# Altium footprint library PcbLib1.PcbLib: 19 footprints (part 1 of 2)
Each footprint in its own frame and in the unit in brackets; x right, y up, seen from the top. Pads: shape width x height; smd on the part's side, far side on the other; paste and mask are expansions set on the pad; w line width, h text height; cw(c..) or ccw(c..) is an arc to the next point about the centre after c.
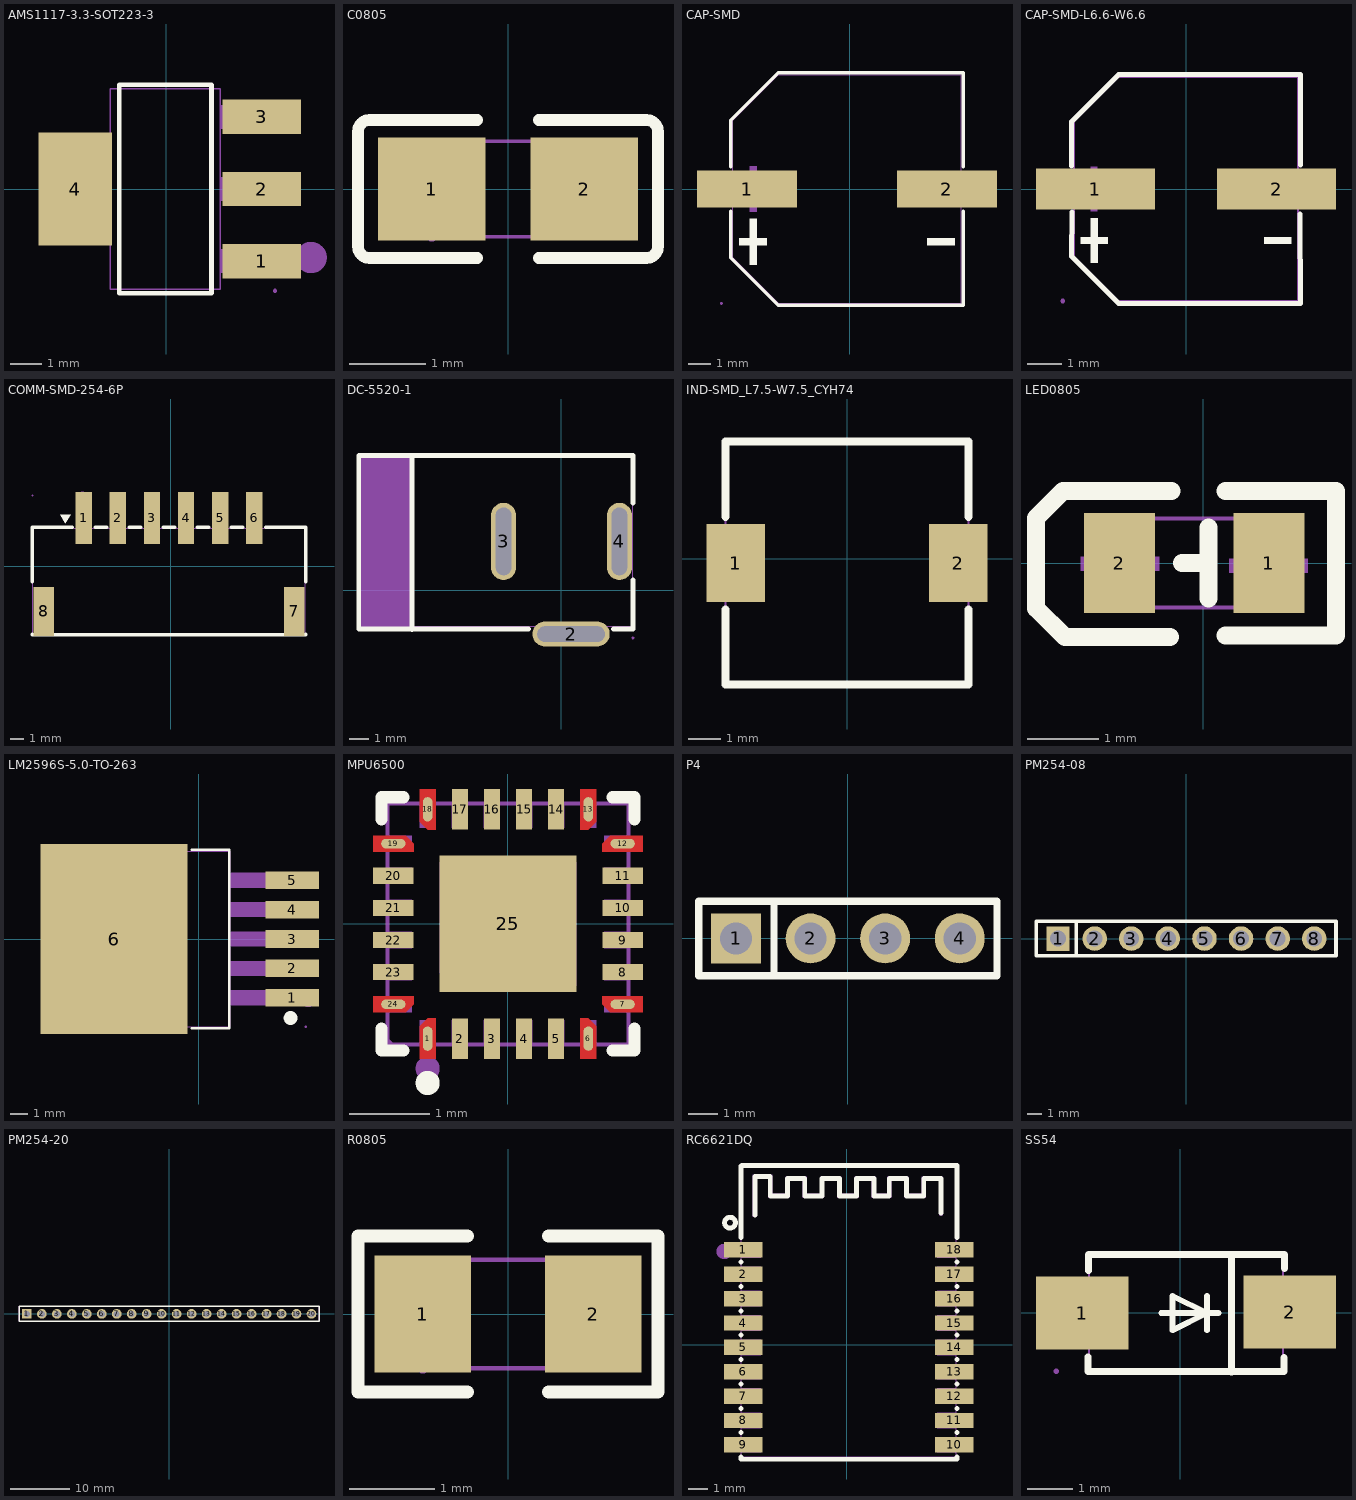
[diagram p0: the footprints below, top view; thin cyan lines are the x and y axes]

## AMS1117-3.3-SOT223-3 [mm]
pads (4):
  rect 2.5x1.1 smd: 1(3.046,-2.3) 2(3.046,0) 3(3.046,2.3)
  rect 2.34x3.6 smd: 4(-2.894,0)
Top Overlay:
  lines w0.152: -1.495,-3.326 -1.495,3.326 1.447,3.326 1.447,-3.326 -1.495,-3.326
Mechanical 6:
  circle w0.5: c4.628,-2.188 r0.25
Mechanical 15:
  region: 3.536,-3.25 3.536,-3.225 3.501,-3.19 3.451,-3.19 3.416,-3.225 3.416,-3.25 3.416,-3.275 3.451,-3.31 3.501,-3.31 3.536,-3.275 3.536,-3.25
  region: -3.524,-1.5 -3.524,1.5 -2.774,1.5 -2.774,-1.5
  region: -2.784,-1.5 -2.784,1.5 -1.764,1.5 -1.764,-1.5
  region: 2.726,-2.675 2.726,-1.925 3.476,-1.925 3.476,-2.675
  region: 1.716,-2.675 1.716,-1.925 2.736,-1.925 2.736,-2.675
  region: 2.726,-0.375 2.726,0.375 3.476,0.375 3.476,-0.375
  region: 1.716,-0.375 1.716,0.375 2.736,0.375 2.736,-0.375
  region: 2.726,1.925 2.726,2.675 3.476,2.675 3.476,1.925
  region: 1.716,1.925 1.716,2.675 2.736,2.675 2.736,1.925
  lines w0.051: -1.778,-3.2 1.722,-3.2 1.722,3.2 -1.778,3.2 -1.778,-3.2
3D body "3D_PCB4_2024-07-02.step": height 1.67, standoff 0, extent -3.346,-3.2 3.654,3.2

## C0805 [mm]
pads (2):
  rect 1.41x1.35 smd paste-100 mask+0.051: 1(-1,0) 2(1,0)
Top Overlay:
  lines w0.152: -0.401,-0.904 -1.811,-0.904 cw(c-1.811,-0.751) -1.964,-0.751 -1.964,0.751 cw(c-1.811,0.751) -1.811,0.904 -0.401,0.904 ; 0.401,-0.904 1.811,-0.904 ccw(c1.811,-0.751) 1.964,-0.751 1.964,0.751 ccw(c1.811,0.751) 1.811,0.904 0.401,0.904
Top Paste:
  region: 0.475,-0.62 0.475,-0.2 0.92,-0.2 0.92,0.25 0.48,0.25 0.475,0.66 0.525,0.71 1.675,0.71 1.725,0.66 1.725,-0.62 1.675,-0.67 0.525,-0.67
  region: -1.675,-0.62 -1.675,0.66 -1.625,0.71 -0.475,0.71 -0.425,0.66 -0.42,0.25 -0.87,0.25 -0.87,-0.2 -0.43,-0.2 -0.425,-0.62 -0.475,-0.67 -1.625,-0.67
Mechanical 15:
  region: -0.94,-0.625 -0.94,-0.6 -0.975,-0.565 -1.025,-0.565 -1.06,-0.6 -1.06,-0.625 -1.06,-0.65 -1.025,-0.685 -0.975,-0.685 -0.94,-0.65 -0.94,-0.625
  region: 1,0.625 1,-0.625 0.5,-0.625 0.5,0.625
  region: -1,-0.625 -1,0.625 -0.5,0.625 -0.5,-0.625
  lines w0.051: -1,-0.625 1,-0.625 1,0.625 -1,0.625 -1,-0.625
3D body "3D_PCB4_2024-07-01.step": height 1.3, standoff 0, extent -0.981,-0.642 1.019,0.658

## CAP-SMD [mm]
pads (2):
  rect 4.5x1.65 smd: 1(-4.627,0) 2(4.373,0)
Top Overlay:
  region: -4.505,-1.339 -4.505,-3.399 -4.195,-3.399 -4.195,-1.339
  region: -4.968,-2.214 -4.968,-2.523 -3.732,-2.523 -3.732,-2.214
  region: 4.714,-2.214 4.714,-2.523 3.478,-2.523 3.478,-2.214
  lines w0.152: -5.353,-1.005 -5.353,-3.09 -3.217,-5.226 5.099,-5.226 5.099,-1.005 ; -5.353,1.005 -5.353,3.09 -3.217,5.226 5.099,5.226 5.099,1.005
Mechanical 6:
  region: -4.505,1.03 -4.505,-1.03 -4.195,-1.03 -4.195,1.03
  region: -4.968,0.155 -4.968,-0.155 -3.732,-0.155 -3.732,0.155
  region: 4.714,0.155 4.714,-0.155 3.478,-0.155 3.478,0.155
Mechanical 15:
  region: -5.717,-5.15 -5.717,-5.125 -5.752,-5.09 -5.802,-5.09 -5.837,-5.125 -5.837,-5.15 -5.837,-5.175 -5.802,-5.21 -5.752,-5.21 -5.717,-5.175 -5.717,-5.15
  region: 2.173,0.475 5.523,0.475 5.523,-0.475 2.173,-0.475
  region: -5.777,0.475 -2.427,0.475 -2.427,-0.475 -5.777,-0.475
  lines w0.051: -5.277,-3.09 -3.217,-5.15 5.023,-5.15 5.023,5.15 -3.217,5.15 -5.277,3.09 -5.277,-3.09
3D body "3D_PC2024-07-01.step": height 10.05, standoff 0, extent -5.323,-5.151 5.577,5.15

## CAP-SMD-L6.6-W6.6 [mm]
pads (2):
  rect 3.5x1.2 smd: 1(-2.67,0) 2(2.67,0)
Top Overlay:
  region: -2.805,-0.858 -2.805,-2.178 -2.607,-2.178 -2.607,-0.858
  region: -3.102,-1.419 -3.102,-1.617 -2.31,-1.617 -2.31,-1.419
  region: 3.102,-1.419 3.102,-1.617 2.31,-1.617 2.31,-1.419
  lines w0.152: -3.376,0.686 -3.376,1.98 -1.98,3.376 3.376,3.376 3.369,0.708 ; -3.362,-0.686 -3.376,-1.981 -1.981,-3.376 3.376,-3.376 3.356,-0.739
Mechanical 6:
  region: -2.81,0.66 -2.81,-0.66 -2.612,-0.66 -2.612,0.66
  region: -3.102,0.099 -3.102,-0.099 -2.31,-0.099 -2.31,0.099
  region: 3.102,0.099 3.102,-0.099 2.31,-0.099 2.31,0.099
Mechanical 15:
  region: -3.634,0.325 -1.034,0.325 -1.034,-0.325 -3.634,-0.325
  region: 1.067,0.325 3.667,0.325 3.667,-0.325 1.067,-0.325
  region: -3.574,-3.3 -3.574,-3.275 -3.609,-3.24 -3.659,-3.24 -3.694,-3.275 -3.694,-3.3 -3.694,-3.325 -3.659,-3.36 -3.609,-3.36 -3.574,-3.325 -3.574,-3.3
  lines w0.051: -3.3,-1.98 -3.3,1.98 -1.98,3.3 3.3,3.3 3.3,-3.3 -1.98,-3.3 -3.3,-1.98
3D body "3_PCB4_2024-07-01.step": height 7.75, standoff 0, extent -3.773,-3.301 4.027,3.3

## COMM-SMD-254-6P [mm]
pads (8):
  rect 1.2x3.8 smd paste+0 mask+0.05: 1(-6.377,3.552) 2(-3.877,3.552) 3(-1.377,3.552) 4(1.123,3.552) 5(3.623,3.552) 6(6.123,3.552)
  rect 1.5x3.6 smd paste+0 mask+0.05: 7(9.073,-3.298) 8(-9.327,-3.298)
Top Overlay:
  region: -7.719,3.157 -7.338,3.792 -8.1,3.792
  lines w0.254: -10.16,-4.961 -10.16,-5.005 9.906,-5.005 9.906,-4.961 ; -10.16,-1.143 -10.16,2.869 -9.271,2.869 -7.208,2.869 ; -5.546,2.869 -4.708,2.869 ; -3.046,2.869 -2.208,2.869 ; -0.546,2.869 0.292,2.869 ; 1.954,2.869 2.792,2.869 ; 4.454,2.869 5.292,2.869 ; 6.954,2.869 9.017,2.869 ; 8.852,2.869 9.906,2.869 9.906,-1.143
Mechanical 6:
  circle w0.4: c-6.477,5.08 r0.2
Mechanical 15:
  region: 8.873,-2.293 9.273,-2.293 9.273,-4.993 8.873,-4.993
  region: -9.527,-2.293 -9.127,-2.293 -9.127,-4.993 -9.527,-4.993
  region: 5.803,5.207 6.443,5.207 6.443,2.507 5.803,2.507
  region: 3.303,5.207 3.943,5.207 3.943,2.507 3.303,2.507
  region: 0.803,5.207 1.443,5.207 1.443,2.507 0.803,2.507
  region: -1.697,5.207 -1.057,5.207 -1.057,2.507 -1.697,2.507
  region: -6.697,5.207 -6.057,5.207 -6.057,2.507 -6.697,2.507
  region: -4.197,5.207 -3.557,5.207 -3.557,2.507 -4.197,2.507
  region: -10.067,5.207 -10.067,5.232 -10.102,5.267 -10.152,5.267 -10.187,5.232 -10.187,5.207 -10.187,5.182 -10.152,5.147 -10.102,5.147 -10.067,5.182 -10.067,5.207
  lines w0.051: -10.127,-4.993 9.873,-4.993 9.873,2.807 -10.127,2.807 -10.127,-4.993
3D body "D_PCB4_2024-07-01.step": height 6.11, standoff 0, extent -10.127,-4.923 9.873,5.277

## DC-5520-1 [mm]
pads (3):
  oval 4x1.3 hole 0.8 slot 3.5 at 0 deg: 2(0.5,-2.273)
  oval 1.3x4 hole 0.8 slot 3.5 at 90 deg: 3(-3,2.527) 4(3,2.527)
Top Overlay:
  lines w0.254: -10.5,6.972 -10.5,-2.02 -2.335,-2.02 -1.702,-2.02 ; -10.5,6.98 3.7,6.98 3.7,4.515 ; -7.744,-2.028 -7.744,6.972 ; 2.702,-2.02 3.7,-2.02 3.7,0.539
Mechanical 6:
  region: -10.541,6.985 -7.747,6.985 -7.747,-2.032 -10.541,-2.032
Mechanical 15:
  region: 3.76,-2.473 3.76,-2.448 3.725,-2.413 3.675,-2.413 3.64,-2.448 3.64,-2.473 3.64,-2.498 3.675,-2.533 3.725,-2.533 3.76,-2.498 3.76,-2.473
  region: -0.75,-2.473 1.75,-2.473 1.75,-1.773 -0.75,-1.773
  region: -0.75,-2.073 1.75,-2.073 1.75,-2.473 -0.75,-2.473
  region: -3.15,1.277 -3.15,3.777 -2.85,3.777 -2.85,1.277
  region: 3.15,3.777 3.15,1.277 2.85,1.277 2.85,3.777
  lines w0.051: -10.5,-1.873 -10.5,6.927 3.7,6.927 3.7,-1.873 -10.5,-1.873
3D body "3D_PCB4_2024-0701.step": height 11, standoff -3.8, extent -10.5,-2.3 3.5,7.05

## IND-SMD_L7.5-W7.5_CYH74 [mm]
pads (2):
  rect 1.8x2.4 smd: 1(-3.429,-0.127) 2(3.429,-0.127)
Top Overlay:
  lines w0.254: -3.75,-1.558 -3.75,-3.877 3.75,-3.877 3.75,-1.558 ; -3.75,1.304 -3.75,3.623 3.75,3.623 3.75,1.304
Mechanical 15:
  region: -2.75,0.873 -2.75,-1.127 -3.75,-1.127 -3.75,0.873
  region: 3.75,0.873 3.75,-1.127 2.75,-1.127 2.75,0.873
  region: -3.69,-3.877 -3.69,-3.852 -3.725,-3.817 -3.775,-3.817 -3.81,-3.852 -3.81,-3.877 -3.81,-3.902 -3.775,-3.937 -3.725,-3.937 -3.69,-3.902 -3.69,-3.877
  lines w0.051: -3.75,-3.877 -3.75,3.623 3.75,3.623 3.75,-3.877 -3.75,-3.877
3D body "3D_PCB4_2024-06-30.step": height 4.5, standoff 0, extent -3.877,-3.877 3.623,3.633

## LED0805 [mm]
pads (2):
  rect 1x1.4 smd: 1(0.923,0) 2(-1.177,0)
Top Overlay:
  lines w0.254: -0.471,-1.043 -1.944,-1.043 -2.351,-0.636 -2.351,0.634 -1.97,1.015 -0.446,1.015 ; -0.296,0 -0.027,0 ; 0.073,-0.5 0.073,0.5 ; 0.316,-1.017 1.866,-1.017 1.866,1.015 0.316,1.015
Mechanical 6:
  region: 0.814,-0.556 0.814,0.544 1.014,0.544 1.014,-0.556
  region: 0.367,0.06 1.467,0.06 1.467,-0.14 0.367,-0.14
  region: -0.621,-0.109 -1.721,-0.109 -1.721,0.091 -0.621,0.091
Mechanical 15:
  region: 0.873,-0.625 0.473,-0.625 0.473,0.625 0.873,0.625
  region: -0.727,-0.625 -1.127,-0.625 -1.127,0.625 -0.727,0.625
  region: 0.933,0.625 0.933,0.65 0.898,0.685 0.848,0.685 0.813,0.65 0.813,0.625 0.813,0.6 0.848,0.565 0.898,0.565 0.933,0.6 0.933,0.625
  lines w0.051: -1.127,-0.625 0.873,-0.625 0.873,0.625 -1.127,0.625 -1.127,-0.625
3D body "D_PCB4_2024-07-01.step": height 1, standoff 0, extent -1.127,-0.635 0.873,0.625

## LM2596S-5.0-TO-263 [mm]
pads (6):
  rect 3.083x1.02 smd: 1(5.414,-3.4) 2(5.414,-1.7) 3(5.414,0) 4(5.414,1.7) 5(5.414,3.4)
  rect 8.5x11 smd: 6(-4.906,0)
Top Overlay:
  circle w0.4: c5.311,-4.572 r0.2
  lines w0.15: -0.404,-5.156 1.41,-5.156 ; -0.404,5.156 1.385,5.156 ; 1.286,-5.156 1.755,-5.156 ; 1.286,5.156 1.755,5.156
  lines w0.152: 1.755,-5.156 1.755,5.156
Mechanical 6:
  circle w0.5: c6.327,-3.429 r0.25
Mechanical 15:
  region: 6.25,-5.08 6.25,-5.055 6.214,-5.02 6.165,-5.02 6.13,-5.055 6.13,-5.08 6.13,-5.105 6.165,-5.14 6.214,-5.14 6.25,-5.105 6.25,-5.08
  region: 4.213,-2.98 4.213,-3.82 1.804,-3.82 1.804,-2.98
  region: -0.98,5.08 -0.98,-5.08 -7.144,-5.08 -8.16,-4.064 -8.16,4.064 -7.144,5.08
  region: 4.21,-2.98 6.19,-2.98 6.19,-3.82 4.21,-3.82
  region: 4.213,-1.28 4.213,-2.12 1.804,-2.12 1.804,-1.28
  region: 4.213,0.42 4.213,-0.42 1.804,-0.42 1.804,0.42
  region: 4.213,2.12 4.213,1.28 1.804,1.28 1.804,2.12
  region: 4.213,3.82 4.213,2.98 1.804,2.98 1.804,3.82
  region: 4.21,-1.28 6.19,-1.28 6.19,-2.12 4.21,-2.12
  region: 4.21,0.42 6.19,0.42 6.19,-0.42 4.21,-0.42
  region: 4.21,2.12 6.19,2.12 6.19,1.28 4.21,1.28
  region: 4.21,3.82 6.19,3.82 6.19,2.98 4.21,2.98
  lines w0.051: -6.89,-5.08 1.81,-5.08 1.81,5.08 -6.89,5.08 -6.89,-5.08
3D body "3D_PCB4_2024-07-01.step": height 4.44, standoff -0.08, extent -8.899,-4.846 5.329,5.354

## MPU6500 [mm]
pads (25):
  oval 0.12x0.303 smd: 1(-1,-1.427) 6(1,-1.427) 13(1,1.427) 18(-1,1.427)
  rect 0.2x0.505 smd paste-100 mask+0.051: 2(-0.6,-1.427) 3(-0.2,-1.427) 4(0.2,-1.427) 5(0.6,-1.427) 14(0.6,1.427) 15(0.2,1.427) 16(-0.2,1.427) 17(-0.6,1.427)
  oval 0.303x0.12 smd: 7(1.427,-1) 12(1.427,1) 19(-1.427,1) 24(-1.427,-1)
  rect 0.505x0.2 smd paste-100 mask+0.051: 8(1.427,-0.6) 9(1.427,-0.2) 10(1.427,0.2) 11(1.427,0.6) 20(-1.427,0.6) 21(-1.427,0.2) 22(-1.427,-0.2) 23(-1.427,-0.6)
  rect 1.7x1.7 smd paste-100 mask+0.051: 25(0,0)
Top Layer:
  region: -1.68,1.1 -1.274,1.1 -1.174,1 -1.175,0.9 -1.68,0.9
  region: 1.1,-1.68 0.9,-1.68 0.9,-1.175 1,-1.175 1.1,-1.275
  region: -1.1,-1.68 -0.9,-1.68 -0.9,-1.175 -1,-1.174 -1.1,-1.275
  region: 1.1,1.68 0.9,1.68 0.9,1.175 1,1.174 1.1,1.274
  region: 1.68,1.1 1.274,1.1 1.174,1 1.175,0.9 1.68,0.9
  region: 1.68,-1.1 1.275,-1.1 1.175,-1 1.175,-0.9 1.68,-0.9
  region: -1.68,-1.1 -1.274,-1.1 -1.174,-1 -1.175,-0.9 -1.68,-0.9
  region: -1.1,1.68 -0.9,1.68 -0.9,1.175 -1,1.174 -1.1,1.274
Top Overlay:
  circle w0.15: c-1,-1.98 r0.075
  lines w0.152: -1.576,-1.303 -1.576,-1.576 -1.303,-1.576 ; -1.576,1.303 -1.576,1.576 -1.303,1.576 ; 1.303,-1.576 1.576,-1.576 1.576,-1.303 ; 1.303,1.576 1.576,1.576 1.576,1.303
Top Paste:
  region: -0.72,0.72 0.72,0.72 0.72,-0.72 -0.72,-0.72
  region: -0.1,-1.68 -0.1,-1.175 -0.3,-1.175 -0.3,-1.68
  region: 0.3,-1.68 0.3,-1.175 0.1,-1.175 0.1,-1.68
  region: -0.7,-1.175 -0.7,-1.68 -0.5,-1.68 -0.5,-1.175
  region: 0.7,-1.68 0.7,-1.175 0.5,-1.175 0.5,-1.68
  region: 1,-1.175 0.9,-1.175 0.9,-1.68 1.1,-1.68 1.1,-1.275
  region: -0.9,-1.175 -1,-1.174 -1.1,-1.275 -1.1,-1.68 -0.9,-1.68
  region: 1.68,-1.1 1.68,-0.9 1.175,-0.9 1.175,-1 1.275,-1.1
  region: -1.68,-0.9 -1.68,-1.1 -1.274,-1.1 -1.174,-1 -1.175,-0.9
  region: 1.68,-0.7 1.68,-0.5 1.175,-0.5 1.175,-0.7
  region: -1.68,-0.5 -1.68,-0.7 -1.175,-0.7 -1.175,-0.5
  region: 1.68,-0.3 1.68,-0.1 1.175,-0.1 1.175,-0.3
  region: -1.68,-0.1 -1.68,-0.3 -1.175,-0.3 -1.175,-0.1
  region: 1.68,0.1 1.68,0.3 1.175,0.3 1.175,0.1
  region: -1.68,0.3 -1.68,0.1 -1.175,0.1 -1.175,0.3
  region: 1.68,0.5 1.68,0.7 1.175,0.7 1.175,0.5
  region: -1.68,0.7 -1.68,0.5 -1.175,0.5 -1.175,0.7
  region: 1.274,1.1 1.174,1 1.175,0.9 1.68,0.9 1.68,1.1
  region: -1.68,1.1 -1.68,0.9 -1.175,0.9 -1.174,1 -1.274,1.1
  region: 1.1,1.274 1.1,1.68 0.9,1.68 0.9,1.175 1,1.174
  region: -0.1,1.175 -0.1,1.68 -0.3,1.68 -0.3,1.175
  region: 0.1,1.68 0.1,1.175 0.3,1.175 0.3,1.68
  region: -0.5,1.175 -0.5,1.68 -0.7,1.68 -0.7,1.175
  region: -0.9,1.175 -0.9,1.68 -1.1,1.68 -1.1,1.274 -1,1.174
  region: 0.5,1.68 0.5,1.175 0.7,1.175 0.7,1.68
Mechanical 6:
  circle w0.15: c-1,-1.8 r0.075
Mechanical 15:
  region: -0.85,-0.616 -0.85,0.77 0.85,0.77 0.85,-0.77 -0.696,-0.77
  region: -1.2,-1.1 -1.2,-0.9 -1.5,-0.9 -1.5,-1.1
  region: -1.2,-0.7 -1.2,-0.5 -1.5,-0.5 -1.5,-0.7
  region: -1.2,-0.3 -1.2,-0.1 -1.5,-0.1 -1.5,-0.3
  region: -1.2,0.1 -1.2,0.3 -1.5,0.3 -1.5,0.1
  region: -1.2,0.5 -1.2,0.7 -1.5,0.7 -1.5,0.5
  region: -1.2,0.9 -1.2,1.1 -1.5,1.1 -1.5,0.9
  region: -1.1,1.5 -1.1,1.2 -0.9,1.2 -0.9,1.5
  region: -0.7,1.5 -0.7,1.2 -0.5,1.2 -0.5,1.5
  region: -0.3,1.5 -0.3,1.2 -0.1,1.2 -0.1,1.5
  region: 0.1,1.5 0.1,1.2 0.3,1.2 0.3,1.5
  region: 0.5,1.5 0.5,1.2 0.7,1.2 0.7,1.5
  region: 0.9,1.5 0.9,1.2 1.1,1.2 1.1,1.5
  region: 1.2,0.9 1.2,1.1 1.5,1.1 1.5,0.9
  region: 1.2,0.5 1.2,0.7 1.5,0.7 1.5,0.5
  region: 1.2,0.1 1.2,0.3 1.5,0.3 1.5,0.1
  region: 1.2,-0.3 1.2,-0.1 1.5,-0.1 1.5,-0.3
  region: 1.2,-0.7 1.2,-0.5 1.5,-0.5 1.5,-0.7
  region: 1.2,-1.1 1.2,-0.9 1.5,-0.9 1.5,-1.1
  region: 0.9,-1.5 0.9,-1.2 1.1,-1.2 1.1,-1.5
  region: 0.5,-1.5 0.5,-1.2 0.7,-1.2 0.7,-1.5
  region: 0.1,-1.5 0.1,-1.2 0.3,-1.2 0.3,-1.5
  region: -0.3,-1.5 -0.3,-1.2 -0.1,-1.2 -0.1,-1.5
  region: -0.7,-1.5 -0.7,-1.2 -0.5,-1.2 -0.5,-1.5
  region: -1.1,-1.5 -1.1,-1.2 -0.9,-1.2 -0.9,-1.5
  region: -1.44,-1.5 -1.44,-1.475 -1.475,-1.44 -1.525,-1.44 -1.56,-1.475 -1.56,-1.5 -1.56,-1.525 -1.525,-1.56 -1.475,-1.56 -1.44,-1.525 -1.44,-1.5
  lines w0.051: -1.5,-1.5 1.5,-1.5 1.5,1.5 -1.5,1.5 -1.5,-1.5
3D body "3D_PCB4_202-07-02.step": height 0.91, standoff 0, extent -1.5,-1.5 1.5,1.5

## P4 [mm]
pads (4):
  rect 1.7x1.7 hole 1.1: 1(-3.81,0)
  round 1.7 hole 1.1: 2(-1.27,0) 3(1.27,0) 4(3.81,0)
Top Overlay:
  lines w0.254: -2.516,-1.27 -2.516,1.27 ; -2.516,1.27 -5.08,1.27 -5.08,-1.27 5.08,-1.27 5.08,1.27 -2.516,1.27
Mechanical 15:
  region: 3.49,0.32 4.13,0.32 4.13,-0.32 3.49,-0.32
  region: 0.95,0.32 1.59,0.32 1.59,-0.32 0.95,-0.32
  region: -1.59,0.32 -0.95,0.32 -0.95,-0.32 -1.59,-0.32
  region: -4.13,0.32 -3.49,0.32 -3.49,-0.32 -4.13,-0.32
  region: -5.02,-1.25 -5.02,-1.225 -5.055,-1.19 -5.105,-1.19 -5.14,-1.225 -5.14,-1.25 -5.14,-1.275 -5.105,-1.31 -5.055,-1.31 -5.02,-1.275 -5.02,-1.25
  lines w0.051: -5.08,-1.25 5.08,-1.25 5.08,1.25 -5.08,1.25 -5.08,-1.25
3D body "3D_CB4_2024-07-01.step": height 8.54, standoff -3, extent -5.08,-1.33 5.09,1.33

## PM254-08 [mm]
pads (8):
  rect 1.575x1.7 hole 1.1: 1(-8.89,0)
  round 1.7 hole 1.1: 2(-6.35,0) 3(-3.81,0) 4(-1.27,0) 5(1.27,0) 6(3.81,0) 7(6.35,0) 8(8.89,0)
Top Overlay:
  lines w0.254: -7.62,-1.143 -7.62,1.143 ; -10.4,-1.2 -10.4,1.2 10.4,1.2 10.4,-1.2 -10.4,-1.2
Mechanical 15:
  region: 8.59,0.2 9.19,0.2 9.19,-0.2 8.59,-0.2
  region: 6.05,0.2 6.65,0.2 6.65,-0.2 6.05,-0.2
  region: 3.51,0.2 4.11,0.2 4.11,-0.2 3.51,-0.2
  region: 0.97,0.2 1.57,0.2 1.57,-0.2 0.97,-0.2
  region: -1.57,0.2 -0.97,0.2 -0.97,-0.2 -1.57,-0.2
  region: -4.11,0.2 -3.51,0.2 -3.51,-0.2 -4.11,-0.2
  region: -6.65,0.2 -6.05,0.2 -6.05,-0.2 -6.65,-0.2
  region: -9.19,-0.2 -9.19,0.2 -8.59,0.2 -8.59,-0.2
  region: -10.3,-1.2 -10.3,-1.175 -10.335,-1.14 -10.385,-1.14 -10.42,-1.175 -10.42,-1.2 -10.42,-1.225 -10.385,-1.26 -10.335,-1.26 -10.3,-1.225 -10.3,-1.2
  lines w0.051: -10.36,-1.2 -10.36,1.2 10.36,1.2 10.36,-1.2 -10.36,-1.2
3D body "3D_PCB4_2024.step": height 8.51, standoff -3.19, extent -10.345,-1.083 10.385,1.317

## PM254-20 [mm]
pads (20):
  rect 1.65x1.65 hole 1.02: 1(-24.13,0)
  round 1.65 hole 1.02: 2(-21.59,0) 3(-19.05,0) 4(-16.51,0) 5(-13.97,0) 6(-11.43,0) 7(-8.89,0) 8(-6.35,0) 9(-3.81,0) 10(-1.27,0) 11(1.27,0) 12(3.81,0) 13(6.35,0) 14(8.89,0) 15(11.43,0) 16(13.97,0) 17(16.51,0) 18(19.05,0) 19(21.59,0) 20(24.13,0)
Top Overlay:
  lines w0.254: -25.4,-1.25 25.4,-1.25 25.4,1.25 -25.4,1.25 -25.4,-1.25
Mechanical 15:
  region: -25.34,-1.25 -25.34,-1.225 -25.375,-1.19 -25.425,-1.19 -25.46,-1.225 -25.46,-1.25 -25.46,-1.275 -25.425,-1.31 -25.375,-1.31 -25.34,-1.275 -25.34,-1.25
  region: 23.81,0.2 24.45,0.2 24.45,-0.2 23.81,-0.2
  region: 21.27,0.2 21.91,0.2 21.91,-0.2 21.27,-0.2
  region: 18.73,0.2 19.37,0.2 19.37,-0.2 18.73,-0.2
  region: 16.19,0.2 16.83,0.2 16.83,-0.2 16.19,-0.2
  region: 13.65,0.2 14.29,0.2 14.29,-0.2 13.65,-0.2
  region: 11.11,0.2 11.75,0.2 11.75,-0.2 11.11,-0.2
  region: 8.57,0.2 9.21,0.2 9.21,-0.2 8.57,-0.2
  region: 6.03,0.2 6.67,0.2 6.67,-0.2 6.03,-0.2
  region: 3.49,0.2 4.13,0.2 4.13,-0.2 3.49,-0.2
  region: 0.95,0.2 1.59,0.2 1.59,-0.2 0.95,-0.2
  region: -1.59,0.2 -0.95,0.2 -0.95,-0.2 -1.59,-0.2
  region: -4.13,0.2 -3.49,0.2 -3.49,-0.2 -4.13,-0.2
  region: -6.67,0.2 -6.03,0.2 -6.03,-0.2 -6.67,-0.2
  region: -9.21,0.2 -8.57,0.2 -8.57,-0.2 -9.21,-0.2
  region: -11.75,0.2 -11.11,0.2 -11.11,-0.2 -11.75,-0.2
  region: -14.29,0.2 -13.65,0.2 -13.65,-0.2 -14.29,-0.2
  region: -16.83,0.2 -16.19,0.2 -16.19,-0.2 -16.83,-0.2
  region: -19.37,0.2 -18.73,0.2 -18.73,-0.2 -19.37,-0.2
  region: -21.91,0.2 -21.27,0.2 -21.27,-0.2 -21.91,-0.2
  region: -24.45,0.2 -23.81,0.2 -23.81,-0.2 -24.45,-0.2
  lines w0.051: -25.4,-1.25 -25.4,1.25 25.4,1.25 25.4,-1.25 -25.4,-1.25
3D body "3D_PCB4_.step": height 8.54, standoff -2.66, extent -25.478,-1.255 25.322,1.255

## R0805 [mm]
pads (2):
  rect 1.133x1.377 smd paste-100 mask+0.051: 1(-1,0) 2(1,0)
Top Overlay:
  lines w0.152: -0.476,-0.917 -1.761,-0.917 -1.761,0.917 -0.476,0.917 ; 0.476,-0.917 1.761,-0.917 1.761,0.917 0.476,0.917
Top Paste:
  region: 0.45,-0.64 0.45,-0.22 0.895,-0.22 0.895,0.23 0.455,0.23 0.45,0.64 0.5,0.69 1.65,0.69 1.7,0.64 1.7,-0.64 1.65,-0.69 0.5,-0.69
  region: -1.7,-0.64 -1.7,0.64 -1.65,0.69 -0.5,0.69 -0.45,0.64 -0.445,0.23 -0.895,0.23 -0.895,-0.22 -0.455,-0.22 -0.45,-0.64 -0.5,-0.69 -1.65,-0.69
Mechanical 15:
  region: -0.94,-0.638 -0.94,-0.613 -0.975,-0.578 -1.025,-0.578 -1.06,-0.613 -1.06,-0.638 -1.06,-0.662 -1.025,-0.698 -0.975,-0.698 -0.94,-0.662 -0.94,-0.638
  region: 1,-0.637 1,0.637 0.6,0.637 0.6,-0.637
  region: -1,-0.637 -1,0.637 -0.6,0.637 -0.6,-0.637
  lines w0.051: -1,-0.637 1,-0.637 1,0.637 -1,0.637 -1,-0.637
3D body "3D_PCB4_2024-07-01.step": height 0.65, standoff 0.04, extent -0.992,-0.65 1.008,0.651

## RC6621DQ [mm]
pads (18):
  rect 2x0.8 smd paste+0 mask+0.05: 1(-5.38,4.939) 2(-5.38,3.669) 3(-5.38,2.399) 4(-5.38,1.129) 5(-5.38,-0.141) 6(-5.38,-1.411) 7(-5.38,-2.681) 8(-5.38,-3.951) 9(-5.38,-5.221) 10(5.62,-5.221) 11(5.62,-3.951) 12(5.62,-2.681) 13(5.62,-1.411) 14(5.62,-0.141) 15(5.62,1.129) 16(5.62,2.399) 17(5.62,3.669) 18(5.62,4.939)
Top Overlay:
  circle w0.254: c-6.08,6.359 r0.283
  lines w0.254: -5.51,-5.852 -5.51,-5.971 5.76,-5.971 5.76,-5.852 ; -5.51,-4.59 -5.51,-4.582 ; -5.51,-3.32 -5.51,-3.312 ; -5.51,-2.05 -5.51,-2.042 ; -5.51,-0.78 -5.51,-0.772 ; -5.51,0.49 -5.51,0.498 ; -5.51,1.76 -5.51,1.768 ; -5.51,3.03 -5.51,3.038 ; -5.51,4.3 -5.51,4.308 ; -5.51,5.57 -5.51,9.319 ; -5.45,9.339 5.76,9.339 5.76,5.57 ; -4.78,6.759 -4.78,8.759 -3.98,8.759 -3.98,7.759 -3.08,7.759 -3.08,8.659 -2.18,8.659 -2.18,7.759 -1.28,7.759 -1.28,8.659 -0.38,8.659 -0.38,7.759 0.52,7.759 0.52,8.659 1.42,8.659 1.42,7.759 2.22,7.759 2.22,8.659 3.12,8.659 3.12,7.759 4.02,7.759 4.02,8.659 4.92,8.659 4.92,6.859 ; 5.76,-4.59 5.76,-4.582 ; 5.76,-3.32 5.76,-3.312 ; 5.76,-2.05 5.76,-2.042 ; 5.76,-0.78 5.76,-0.772 ; 5.76,0.49 5.76,0.498 ; 5.76,1.76 5.76,1.768 ; 5.76,3.03 5.76,3.038 ; 5.76,4.3 5.76,4.308
Mechanical 6:
  circle w0.4: c-6.38,4.859 r0.2
  region: -4.88,8.859 -3.88,8.859 -3.88,7.859 -3.18,7.859 -3.18,8.759 -2.08,8.759 -2.08,7.859 -1.38,7.859 -1.38,8.759 -0.28,8.759 -0.28,7.859 0.42,7.859 0.42,8.759 1.52,8.759 1.52,7.859 2.12,7.859 2.12,8.759 3.22,8.759 3.22,7.859 3.92,7.859 3.92,8.759 5.02,8.759 5.02,6.759 4.82,6.759 4.82,8.559 4.12,8.559 4.12,7.659 3.02,7.659 3.02,8.559 2.32,8.559 2.32,7.659 1.32,7.659 1.32,8.559 0.62,8.559 0.62,7.659 -0.48,7.659 -0.48,8.559 -1.18,8.559 -1.18,7.659 -2.28,7.659 -2.28,8.559 -2.98,8.559 -2.98,7.659 -4.08,7.659 -4.08,8.659 -4.88,8.659
  region: -4.88,8.859 -4.68,8.859 -4.68,6.659 -4.88,6.659 -4.88,6.759
Mechanical 15:
  region: -5.42,9.359 -5.42,9.383 -5.455,9.418 -5.504,9.418 -5.539,9.383 -5.54,9.359 -5.539,9.334 -5.504,9.3 -5.455,9.3 -5.42,9.334 -5.42,9.359
  region: 5.72,4.539 4.72,4.539 4.72,5.339 5.72,5.339
  region: -4.48,4.539 -5.48,4.539 -5.48,5.339 -4.48,5.339
  region: -4.48,3.269 -5.48,3.269 -5.48,4.069 -4.48,4.069
  region: -4.48,1.999 -5.48,1.999 -5.48,2.799 -4.48,2.799
  region: -4.48,0.729 -5.48,0.729 -5.48,1.529 -4.48,1.529
  region: -4.48,-0.541 -5.48,-0.541 -5.48,0.259 -4.48,0.259
  region: -4.48,-1.811 -5.48,-1.811 -5.48,-1.011 -4.48,-1.011
  region: -4.48,-3.081 -5.48,-3.081 -5.48,-2.281 -4.48,-2.281
  region: -4.48,-4.351 -5.48,-4.351 -5.48,-3.551 -4.48,-3.551
  region: -4.48,-5.621 -5.48,-5.621 -5.48,-4.821 -4.48,-4.821
  region: 5.72,3.269 4.72,3.269 4.72,4.069 5.72,4.069
  region: 5.72,1.999 4.72,1.999 4.72,2.799 5.72,2.799
  region: 4.72,1.529 5.72,1.529 5.72,0.729 4.72,0.729
  region: 5.72,-0.541 4.72,-0.541 4.72,0.259 5.72,0.259
  region: 5.72,-1.811 4.72,-1.811 4.72,-1.011 5.72,-1.011
  region: 5.72,-3.081 4.72,-3.081 4.72,-2.281 5.72,-2.281
  region: 5.72,-4.351 4.72,-4.351 4.72,-3.551 5.72,-3.551
  region: 5.72,-5.621 4.72,-5.621 4.72,-4.821 5.72,-4.821
  lines w0.051: -5.48,-5.841 -5.48,9.359 5.72,9.359 5.72,-5.841 -5.48,-5.841
3D body "3D_PCB4_2024-0-02.step": height 2.01, standoff 0, extent -5.474,-5.823 5.728,9.377

## SS54 [mm]
pads (2):
  rect 2.046x1.62 smd: 1(-2.177,-0.009) 2(2.431,0.009)
Top Overlay:
  lines w0.127: -0.424,-0.01 0.846,-0.01 ; 0.592,-0.391 0.592,-0.01 ; 0.592,0.371 0.592,-0.01 ; 0.592,-0.01 -0.17,0.371 -0.17,-0.01 -0.17,-0.391 0.592,-0.01
  lines w0.152: -2.043,-0.979 -2.043,-1.309 2.304,-1.309 2.304,-0.998 ; -2.033,0.93 -2.033,1.288 2.313,1.288 2.313,0.977 ; 1.134,-1.321 1.134,1.276
Mechanical 6:
  region: 2.559,0.097 2.559,-0.097 1.786,-0.097 1.786,0.097
  region: -2.305,0.097 -2.305,-0.097 -1.532,-0.097 -1.532,0.097
  region: -2.015,0.644 -2.015,-0.644 -1.822,-0.644 -1.822,0.644
Mechanical 15:
  region: -2.373,-0.734 -2.373,0.716 -1.223,0.716 -1.223,-0.734
  region: 2.627,0.734 2.627,-0.716 1.477,-0.716 1.477,0.734
  region: -2.692,-1.3 -2.692,-1.275 -2.727,-1.24 -2.777,-1.24 -2.812,-1.275 -2.812,-1.3 -2.812,-1.325 -2.777,-1.36 -2.727,-1.36 -2.692,-1.325 -2.692,-1.3
  lines w0.051: -2.023,-1.3 2.277,-1.3 2.277,1.3 -2.023,1.3 -2.023,-1.3
3D body "3D_PCB4_2024-07-02.step": height 2.1, standoff 0, extent -2.52,-1.315 2.52,1.315